# Altium integrated library condensateur.IntLib: 3 symbols
Pins are listed as number, name and electrical type; pins without a type are passive.

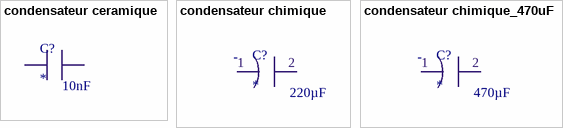
[diagram p0: symbols condensateur ceramique to condensateur chimique_470uF]

## condensateur ceramique
designator C?  value 10nF
footprint condensateur ceramique
pins: 1, 2

## condensateur chimique
designator C?  value 220µF
footprint condensateur chimique 220µf 16v
pins: 1, 2
text: -

## condensateur chimique_470uF
designator C?  value 470µF
footprint condensateur chimique 470f 16v -
pins: 1, 2
text: -